# Altium schematic symbol library 3362P.SchLib: 1 symbol
Pins are listed as number, name and electrical type; pins without a type are passive.

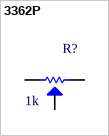
[diagram p0: symbol 3362P]

## 3362P
designator R?  value 1k
footprint 3362P
pins: 1, 2, 3